# Altium schematic symbol library FM2000GP-TP.SchLib: 1 symbol
Pins are listed as number, name and electrical type; pins without a type are passive.

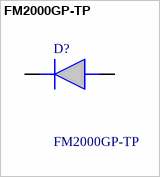
[diagram p0: symbol FM2000GP-TP]

## FM2000GP-TP
designator D?
Fast Recovery Rectifiers; Manufacturer_Name: MCC; Geometry.Height: 2.44mm; Mouser Part Number: 833-FM2000GP-TP; Mouser Price/Stock: https://www.mouser.co.uk/ProductDetail/Micro-Commercial-Components-MCC/FM2000GP-TP?qs=y6ZabgHbY%252BxF9Taq4zonHw%3D%3D; Manufacturer_Part_Number: FM2000GP-TP; Datasheet Link: https://www.mccsemi.com/pdf/Products/FM2000GP(SMA).pdf
footprint DIOM5226X244N
pins: 1 K, 2 A